# EAGLE library part RN_1C_8 (library be_rcl)
edited: Mario Blunk
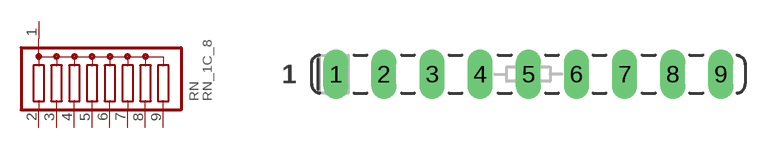
[diagram p0: symbol with the pads of T_SIL9; footprint T_SIL9]

Designator prefix RN

## RN_1C_8_T_SIL9 (BOM: YES; COMMISSIONED: 2014-10-14; PART_CODE_BEL: RN_PAC_T_SIL9_VAL_)  [T_SIL9]
1  1  pas
2  2  pas
3  3  pas
4  4  pas
5  5  pas
6  6  pas
7  7  pas
8  8  pas
9  9  pas

## Footprint T_SIL9 (pad centres in mm)
edited: Mario Blunk date: 2014-10-14
drill 0.8 long: 1 -10.16,0; 2 -7.62,0; 3 -5.08,0; 4 -2.54,0; 5 0,0; 6 2.54,0; 7 5.08,0; 8 7.62,0; 9 10.16,0